# EAGLE library part SAMD21J (library borkedlabs-micros)
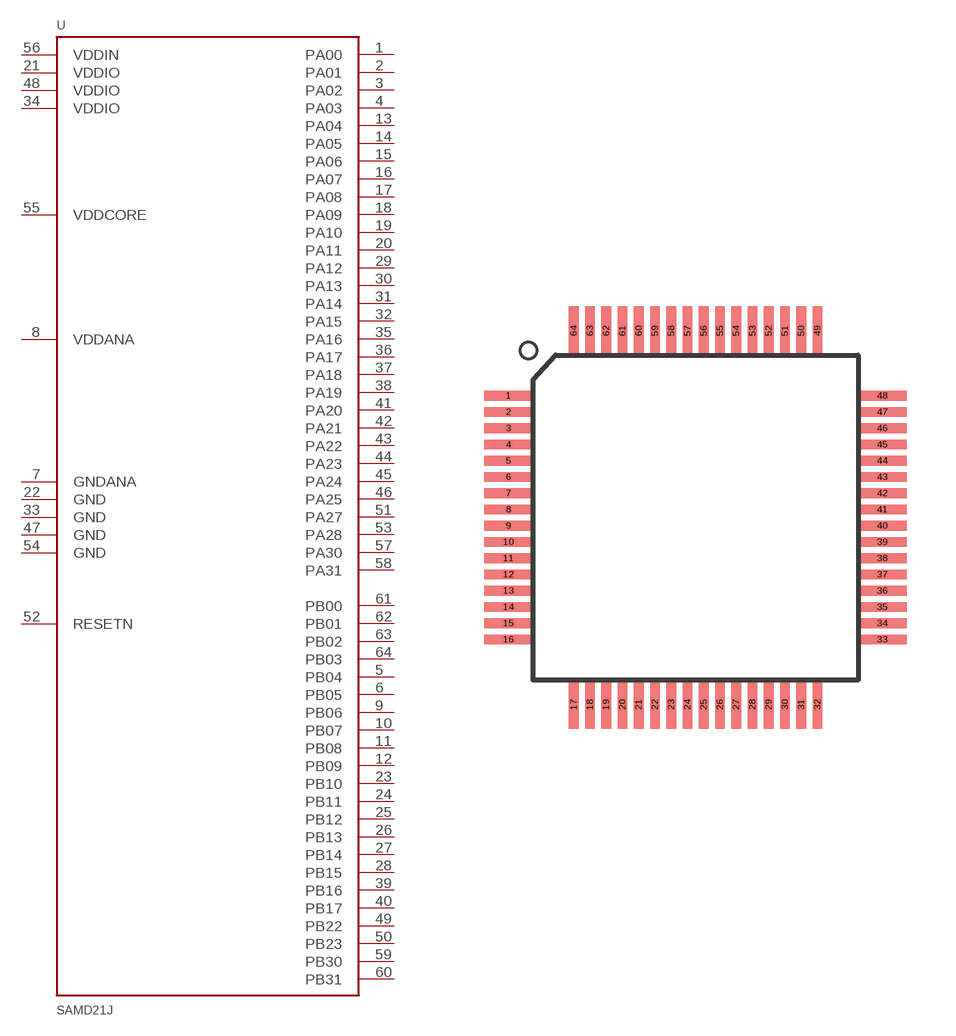
[diagram p6: symbol with the pads of LQFP64; footprint LQFP64]

Designator prefix U

## SAMD21JXXX-A  [LQFP64]
1  PA00
2  PA01
3  PA02
4  PA03
5  PB04
6  PB05
7  GNDANA
8  VDDANA
9  PB06
10  PB07
11  PB08
12  PB09
13  PA04
14  PA05
15  PA06
16  PA07
17  PA08
18  PA09
19  PA10
20  PA11
21  VDDIO
22  GND
23  PB10
24  PB11
25  PB12
26  PB13
27  PB14
28  PB15
29  PA12
30  PA13
31  PA14
32  PA15
33  GND
34  VDDIO
35  PA16
36  PA17
37  PA18
38  PA19
39  PB16
40  PB17
41  PA20
42  PA21
43  PA22
44  PA23
45  PA24
46  PA25
47  GND
48  VDDIO
49  PB22
50  PB23
51  PA27
52  RESETN
53  PA28
54  GND
55  VDDCORE
56  VDDIN
57  PA30
58  PA31
59  PB30
60  PB31
61  PB00
62  PB01
63  PB02
64  PB03

## Footprint LQFP64 (pad centres in mm)
smd 1.5 x 0.3: 1 -5.75,3.75; 2 -5.75,3.25; 3 -5.75,2.75; 4 -5.75,2.25; 5 -5.75,1.75; 6 -5.75,1.25; 7 -5.75,0.75; 8 -5.75,0.25; 9 -5.75,-0.25; 10 -5.75,-0.75; 11 -5.75,-1.25; 12 -5.75,-1.75; 13 -5.75,-2.25; 14 -5.75,-2.75; 15 -5.75,-3.25; 16 -5.75,-3.75; 33 5.75,-3.75; 34 5.75,-3.25; 35 5.75,-2.75; 36 5.75,-2.25; 37 5.75,-1.75; 38 5.75,-1.25; 39 5.75,-0.75; 40 5.75,-0.25; 41 5.75,0.25; 42 5.75,0.75; 43 5.75,1.25; 44 5.75,1.75; 45 5.75,2.25; 46 5.75,2.75; 47 5.75,3.25; 48 5.75,3.75
smd 0.3 x 1.5: 17 -3.75,-5.75; 18 -3.25,-5.75; 19 -2.75,-5.75; 20 -2.25,-5.75; 21 -1.75,-5.75; 22 -1.25,-5.75; 23 -0.75,-5.75; 24 -0.25,-5.75; 25 0.25,-5.75; 26 0.75,-5.75; 27 1.25,-5.75; 28 1.75,-5.75; 29 2.25,-5.75; 30 2.75,-5.75; 31 3.25,-5.75; 32 3.75,-5.75; 49 3.75,5.75; 50 3.25,5.75; 51 2.75,5.75; 52 2.25,5.75; 53 1.75,5.75; 54 1.25,5.75; 55 0.75,5.75; 56 0.25,5.75; 57 -0.25,5.75; 58 -0.75,5.75; 59 -1.25,5.75; 60 -1.75,5.75; 61 -2.25,5.75; 62 -2.75,5.75; 63 -3.25,5.75; 64 -3.75,5.75